# Altium schematic symbol library TH_pad.SchLib: 1 symbol
Pins are listed as number, name and electrical type; pins without a type are passive.

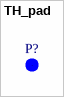
[diagram p0: symbol TH_pad]

## TH_pad
designator P?  (value not drawn)
Value: *
pins: 1